# Altium footprint library LM_SCR38-350.PcbLib: 1 footprints
Each footprint in its own frame and in the unit in brackets; x right, y up, seen from the top. Pads: shape width x height; smd on the part's side, far side on the other; paste and mask are expansions set on the pad; w line width, h text height; cw(c..) or ccw(c..) is an arc to the next point about the centre after c.
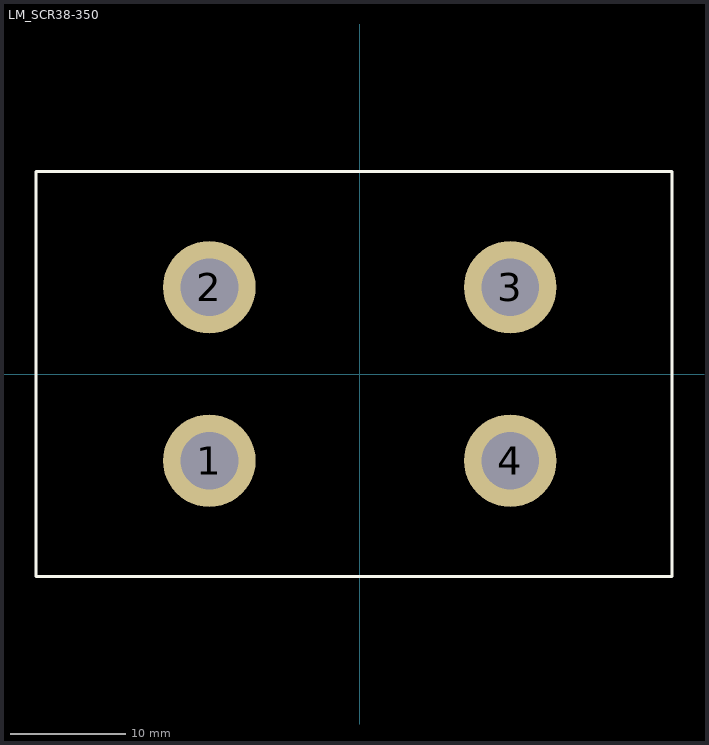
[diagram p0: the footprint, top view; thin cyan lines are the x and y axes]

## LM_SCR38-350 [mm]
pads (4):
  round 8 hole 5: 1(-13,-7.5) 2(-13,7.5) 3(13,7.5) 4(13,-7.5)
Top Overlay:
  lines w0.254: -28,-17.5 27,-17.5 27,17.5 -28,17.5 -28,-17.5
3D body "choke_4pin.stp": height 52.25, standoff -3.92, extent -25.224,-21.584 25.017,21.166